# EAGLE library part TPS62130ARGTR (library TPS62130ARGTR)
3-V to 17-V, 3-A step-down converter with DCS-control in 3x3 QFN package Source: Datasheet <http://www.ti.com/lit/gpn/tps62130a>
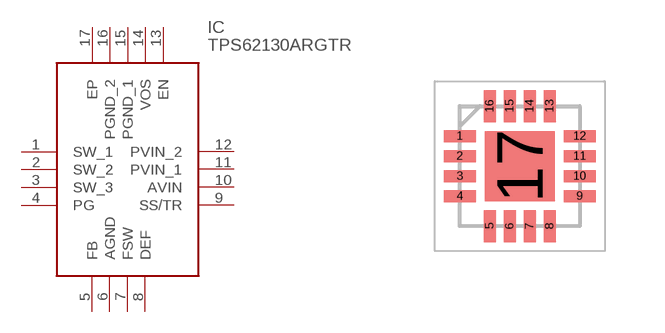
[diagram p0: symbol with the pads of QFN50P300X300X100-17N; footprint QFN50P300X300X100-17N]

Designator prefix IC

## TPS62130ARGTR (Arrow_Part_Number: TPS62130ARGTR; Arrow_Price-Stock: https://www.arrow.com/en/products/tps62130argtr/texas-instruments?utm_currency=USD&region=nac; Description: 3-V to 17-V, 3-A step-down converter with DCS-control in 3x3 QFN package; Height: 1mm; Manufacturer_Name: Texas Instruments; Manufacturer_Part_Number: TPS62130ARGTR; Mouser_Part_Number: 595-TPS62130ARGTR; Mouser_Price-Stock: https://www.mouser.co.uk/ProductDetail/Texas-Instruments/TPS62130ARGTR?qs=iIeLWXrA%252B1VxURRIvONmVg%3D%3D)  [QFN50P300X300X100-17N]
1  SW_1
2  SW_2
3  SW_3
4  PG
5  FB
6  AGND
7  FSW
8  DEF
9  SS/TR
10  AVIN
11  PVIN_1
12  PVIN_2
13  EN
14  VOS
15  PGND_1
16  PGND_2
17  EP

## Footprint QFN50P300X300X100-17N (pad centres in mm)
RGT0016C+
smd 0.8 x 0.3: 1 -1.5,0.75; 2 -1.5,0.25; 3 -1.5,-0.25; 4 -1.5,-0.75; 9 1.5,-0.75; 10 1.5,-0.25; 11 1.5,0.25; 12 1.5,0.75
smd 0.3 x 0.8: 5 -0.75,-1.5; 6 -0.25,-1.5; 7 0.25,-1.5; 8 0.75,-1.5; 13 0.75,1.5; 14 0.25,1.5; 15 -0.25,1.5; 16 -0.75,1.5
smd 1.75 x 1.75: 17 0,0